# EAGLE library part AD5933 (library OrlandoRonMod)
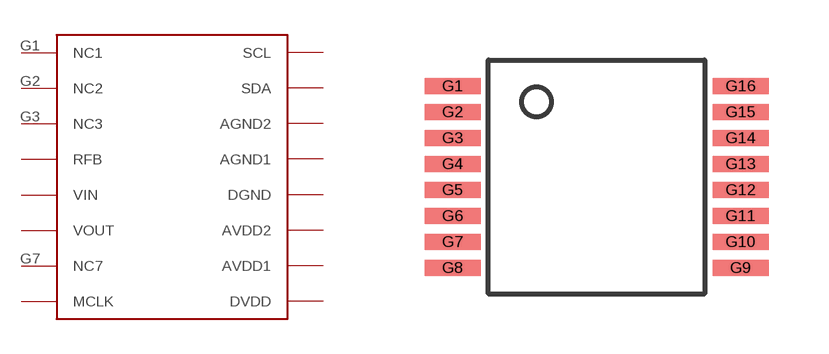
[diagram p1: symbol with the pads of SSOP-16; footprint SSOP-16]

Designator prefix -

## AD5933  [SSOP-16]
G1  NC1
G2  NC2
G3  NC3
G4  RFB
G5  VIN
G6  VOUT
G7  NC7
G8  MCLK
G9  DVDD
G10  AVDD1
G11  AVDD2
G12  DGND
G13  AGND1
G14  AGND2
G15  SDA
G16  SCL

## Footprint SSOP-16 (pad centres in mm)
smd 1.4 x 0.4: G1 -0.1,4.55; G2 -0.1,3.9; G3 -0.1,3.25; G4 -0.1,2.6; G5 -0.1,1.95; G6 -0.1,1.3; G7 -0.1,0.65; G8 -0.1,0; G9 7.1,0; G10 7.1,0.65; G11 7.1,1.3; G12 7.1,1.95; G13 7.1,2.6; G14 7.1,3.25; G15 7.1,3.9; G16 7.1,4.55